# EAGLE library part MINIDIN6-MD-60S (library tvikia)
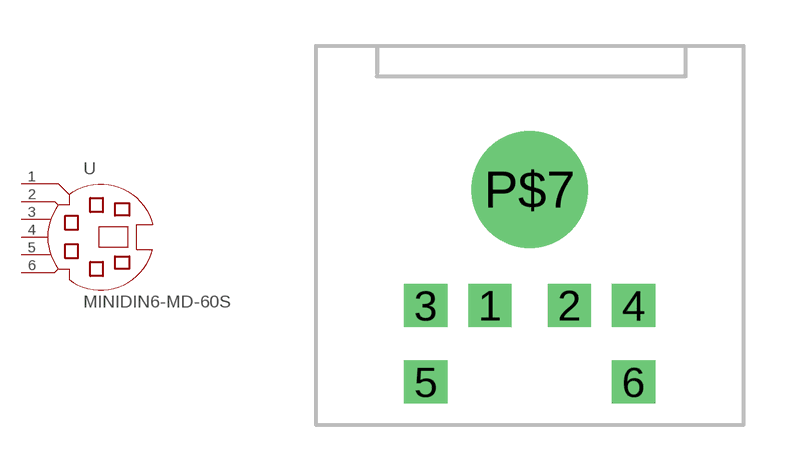
[diagram p2: symbol with the pads of MINIDIN6-MD-60S; footprint MINIDIN6-MD-60S]

Designator prefix -

## MINIDIN6-MD-60S  [MINIDIN6-MD-60S]
1  1  pas
2  2  pas
3  3  pas
4  4  pas
5  5  pas
6  6  pas

## Footprint MINIDIN6-MD-60S (pad centres in mm)
drill 0.9 square: 1 -1.3,-8.5; 2 1.3,-8.5; 3 -3.4,-8.5; 4 3.4,-8.5; 5 -3.4,-11; 6 3.4,-11
drill 2.8 round: P$7 0,-4.7